# EAGLE library part MICROSPEC-C12880MA (library Spectron2)
Hamamatsu Micro-Spectrometer C12666MA 350-750nm
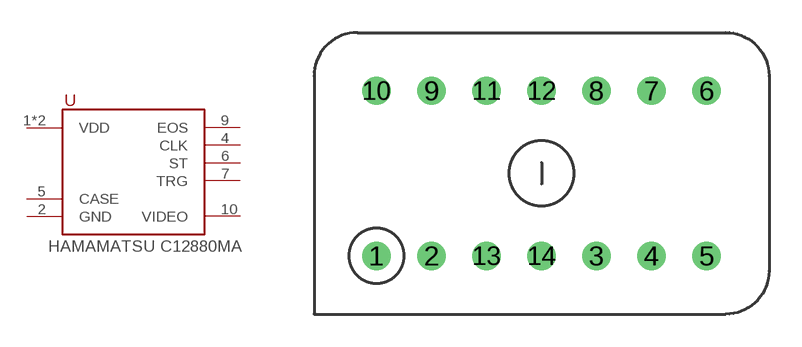
[diagram p11: symbol with the pads of C12880MA; footprint C12880MA]

Designator prefix U

## MICROSPEC-C12880MA  [C12880MA]
1  VDD
2  GND
3  VDD
4  CLK
5  CASE
6  ST
7  TRG
9  EOS
10  VIDEO

## Footprint C12880MA (pad centres in mm)
drill 0.8: 1 -7.62,-3.81; 2 -5.08,-3.81; 3 2.54,-3.81; 4 5.08,-3.81; 5 7.62,-3.81; 6 7.62,3.81; 7 5.08,3.81; 8 2.54,3.81; 9 -5.08,3.81; 10 -7.62,3.81; 11 -2.54,3.81; 12 0,3.81; 13 -2.54,-3.81; 14 0,-3.81